# Altium footprint library 3-641209-4.PcbLib: 1 footprints
Each footprint in its own frame and in the unit in brackets; x right, y up, seen from the top. Pads: shape width x height; smd on the part's side, far side on the other; paste and mask are expansions set on the pad; w line width, h text height; cw(c..) or ccw(c..) is an arc to the next point about the centre after c.
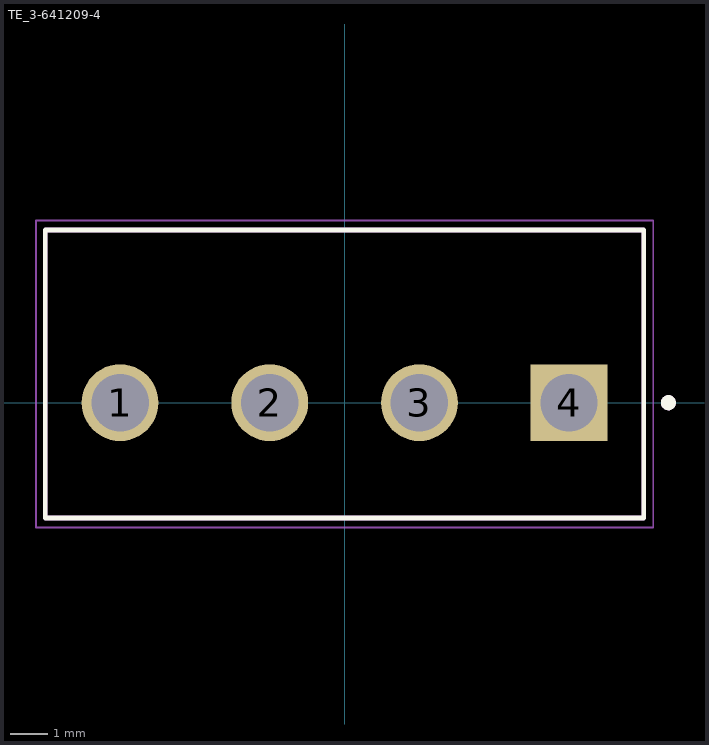
[diagram p0: the footprint, top view; thin cyan lines are the x and y axes]

## TE_3-641209-4 [mil]
pads (4):
  round 80 hole 59.84: 1(-233.86,0) 2(-77.95,0) 3(77.95,0)
  rect 80x80 hole 59.84: 4(233.86,0)
Top Overlay:
  circle w7.87: c337.4,0 r3.94
  lines w5: -311.81,-120.08 311.81,-120.08 311.81,179.92 -311.81,179.92 -311.81,-120.08
Mechanical 13:
  circle w7.87: c337.4,0 r3.94
  lines w5: -311.81,-120.08 -311.81,179.92 ; -311.81,-120.08 311.81,-120.08 ; -311.81,-120.08 -311.81,179.92 ; -311.81,179.92 311.81,179.92 ; -311.81,179.92 311.81,179.92 ; 311.81,-120.08 311.81,179.92 ; 311.81,-120.08 311.81,179.92
Mechanical 15:
  lines w1.97: -321.65,-129.92 321.65,-129.92 321.65,189.76 -321.65,189.76 -321.65,-129.92